# Altium integrated library Connector - Barrier Block.IntLib: 6 symbols
Pins are listed as number, name and electrical type; pins without a type are passive.

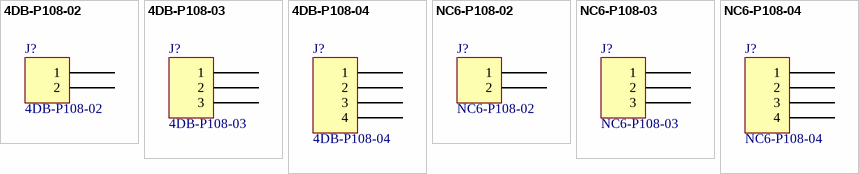
[diagram p0: symbols 4DB-P108-02 to NC6-P108-04]

## 4DB-P108-02
designator J?
CONN BARRIER STRIP 2CIRC 0.325"; Manufacturer: TE Connectivity AMP Connectors; Number Of Circuits: 2; Pitch: 0.325" (8.26mm); Current Rating: 20A; Voltage: 150V; Wire Gauge: 12-22 AWG; Top Termination: Screws with Captive Plate; Bottom Termination: PC Pin; Barrier Type: 2 Wall (Dual); Part Number: 4DB-P108-02; PartId: 27456; Supplier 1: Digi-Key; Supplier Part Number 1: A98472-ND; Supplier 2: Digi-Key; Supplier Part Number 2: A98472-ND; Supplier 3: Digi-Key; Supplier Part Number 3: A98472-ND; Supplier 4: Digi-Key; Supplier Part Number 4: A98472-ND; ComponentLink1Description: Datasheet; ComponentLink1URL: http://www.te.com/commerce/DocumentDelivery/DDEController?Action=srchrtrv&DocNm=2-1437667-4&DocType=Customer+Drawing&DocLang=English; ComponentLink2Description: Digi-Key Listing; ComponentLink2URL: http://www.digikey.com/product-detail/en/te-connectivity-amp-connectors/4DB-P108-02/A98472-ND/1277921; Price: 0.99; Type: Barrier Block; Series: 4DB, Buchanan; Part Status: Active; Number Of Wire Entries: 2; Number Of Rows: 1; Features: -; Colour: Black; Terminal Screw Material: Steel; Terminal Screw Finish: Zinc, Clear Chromate; Mounting Type: Through Hole; Operating Temperature: 105C
footprint TE 4DB-P108-02
pins: 1, 2

## 4DB-P108-03
designator J?
CONN BARRIER STRIP 3CIRC 0.325"; Manufacturer: TE Connectivity AMP Connectors; Number Of Circuits: 3; Pitch: 0.325" (8.26mm); Current Rating: 20A; Voltage: 150V; Wire Gauge: 12-22 AWG; Top Termination: Screws with Captive Plate; Bottom Termination: PC Pin; Barrier Type: 2 Wall (Dual); Part Number: 4DB-P108-03; PartId: 27457; Supplier 1: Digi-Key; Supplier Part Number 1: A98473-ND; Supplier 2: Digi-Key; Supplier Part Number 2: A98473-ND; Supplier 3: Digi-Key; Supplier Part Number 3: A98473-ND; Supplier 4: Digi-Key; Supplier Part Number 4: A98473-ND; ComponentLink1Description: Datasheet; ComponentLink1URL: http://www.te.com/commerce/DocumentDelivery/DDEController?Action=srchrtrv&DocNm=2-1437667-4&DocType=Customer+Drawing&DocLang=English; ComponentLink2Description: Digi-Key Listing; ComponentLink2URL: http://www.digikey.com/products/en?keywords=4DB-P108-03; Price: 1.13; Type: Barrier Block; Series: 4DB, Buchanan; Part Status: Active; Number Of Wire Entries: 3; Number Of Rows: 1; Features: -; Colour: Black; Terminal Screw Material: Steel; Terminal Screw Finish: Zinc, Clear Chromate; Mounting Type: Through Hole; Operating Temperature: 105C
footprint TE 4DB-P108-03
pins: 1, 2, 3

## 4DB-P108-04
designator J?
CONN BARRIER STRIP 4CIRC 0.325"; Manufacturer: TE Connectivity AMP Connectors; Number Of Circuits: 4; Pitch: 0.325" (8.26mm); Current Rating: 20A; Voltage: 150V; Wire Gauge: 12-22 AWG; Top Termination: Screws with Captive Plate; Bottom Termination: PC Pin; Barrier Type: 2 Wall (Dual); Part Number: 4DB-P108-04; PartId: 27458; Supplier 1: Digi-Key; Supplier Part Number 1: A98474-ND; Supplier 2: Digi-Key; Supplier Part Number 2: A98474-ND; Supplier 3: Digi-Key; Supplier Part Number 3: A98474-ND; Supplier 4: Digi-Key; Supplier Part Number 4: A98474-ND; ComponentLink1Description: Datasheet; ComponentLink1URL: http://www.te.com/commerce/DocumentDelivery/DDEController?Action=srchrtrv&DocNm=2-1437667-4&DocType=Customer+Drawing&DocLang=English; ComponentLink2Description: Digi-Key Listing; ComponentLink2URL: http://www.digikey.com/products/en?keywords=4DB-P108-04; Price: 2.11; Type: Barrier Block; Series: 4DB, Buchanan; Part Status: Active; Number Of Wire Entries: 4; Number Of Rows: 1; Features: -; Colour: Black; Terminal Screw Material: Steel; Terminal Screw Finish: Zinc, Clear Chromate; Mounting Type: Through Hole; Operating Temperature: 105C
footprint TE 4DB-P108-04
pins: 1, 2, 3, 4

## NC6-P108-02
designator J?
CONN BARRIER STRIP 2CIRC 0.375"; Manufacturer: TE Connectivity AMP Connectors; Number Of Circuits: 2; Pitch: 0.375" (9.53mm); Current Rating: 20A; Voltage: 300V; Wire Gauge: 12-22 AWG; Top Termination: Screws with Captive Plate; Bottom Termination: PC Pin; Barrier Type: 2 Wall (Dual); Part Number: NC6-P108-02; PartId: 27459; Supplier 1: Digi-Key; Supplier Part Number 1: A98495-ND; Supplier 2: Digi-Key; Supplier Part Number 2: A98495-ND; Supplier 3: Digi-Key; Supplier Part Number 3: A98495-ND; Supplier 4: Digi-Key; Supplier Part Number 4: A98495-ND; ComponentLink1Description: Datasheet; ComponentLink1URL: http://www.te.com/commerce/DocumentDelivery/DDEController?Action=srchrtrv&DocNm=3-1437664-0&DocType=Customer+Drawing&DocLang=English; ComponentLink2Description: Digi-Key Listing; ComponentLink2URL: http://www.digikey.com/product-detail/en/te-connectivity-amp-connectors/NC6-P108-02/A98495-ND/1277926; Price: 1.24; Type: Barrier Block; Series: NC6, Buchanan; Part Status: Active; Number Of Wire Entries: 2; Number Of Rows: 1; Features: -; Colour: Black; Terminal Screw Material: Steel; Terminal Screw Finish: Zinc; Mounting Type: Through Hole; Operating Temperature: -40C ~ 105C
footprint TE NC6-P108-02
pins: 1, 2

## NC6-P108-03
designator J?
CONN BARRIER STRIP 3CIRC 0.375"; Manufacturer: TE Connectivity AMP Connectors; Number Of Circuits: 3; Pitch: 0.375" (9.53mm); Current Rating: 20A; Voltage: 300V; Wire Gauge: 12-22 AWG; Top Termination: Screws with Captive Plate; Bottom Termination: PC Pin; Barrier Type: 2 Wall (Dual); Part Number: NC6-P108-03; PartId: 27460; Supplier 1: Digi-Key; Supplier Part Number 1: A98496-ND; Supplier 2: Digi-Key; Supplier Part Number 2: A98496-ND; Supplier 3: Digi-Key; Supplier Part Number 3: A98496-ND; Supplier 4: Digi-Key; Supplier Part Number 4: A98496-ND; ComponentLink1Description: Datasheet; ComponentLink1URL: http://www.te.com/commerce/DocumentDelivery/DDEController?Action=srchrtrv&DocNm=3-1437664-0&DocType=Customer+Drawing&DocLang=English; ComponentLink2Description: Digi-Key Listing; ComponentLink2URL: http://www.digikey.com/product-detail/en/te-connectivity-amp-connectors/NC6-P108-03/A98496-ND/1277927; Price: 1.99; Type: Barrier Block; Series: NC6, Buchanan; Part Status: Active; Number Of Wire Entries: 3; Number Of Rows: 1; Features: -; Colour: Black; Terminal Screw Material: Steel; Terminal Screw Finish: Zinc; Mounting Type: Through Hole; Operating Temperature: -40C ~ 105C
footprint TE NC6-P108-03
pins: 1, 2, 3

## NC6-P108-04
designator J?
CONN BARRIER STRIP 4CIRC 0.375"; Manufacturer: TE Connectivity AMP Connectors; Number Of Circuits: 4; Pitch: 0.375" (9.53mm); Current Rating: 20A; Voltage: 300V; Wire Gauge: 12-22 AWG; Top Termination: Screws with Captive Plate; Bottom Termination: PC Pin; Barrier Type: 2 Wall (Dual); Part Number: NC6-P108-04; PartId: 27461; Supplier 1: Digi-Key; Supplier Part Number 1: A98497-ND; Supplier 2: Digi-Key; Supplier Part Number 2: A98497-ND; Supplier 3: Digi-Key; Supplier Part Number 3: A98497-ND; Supplier 4: Digi-Key; Supplier Part Number 4: A98497-ND; ComponentLink1Description: Datasheet; ComponentLink1URL: http://www.te.com/commerce/DocumentDelivery/DDEController?Action=srchrtrv&DocNm=3-1437664-0&DocType=Customer+Drawing&DocLang=English; ComponentLink2Description: Digi-Key Listing; ComponentLink2URL: http://www.digikey.com/products/en?keywords=NC6-P108-04; Price: 2.09; Type: Barrier Block; Series: NC6, Buchanan; Part Status: Active; Number Of Wire Entries: 4; Number Of Rows: 1; Features: -; Colour: Black; Terminal Screw Material: Steel; Terminal Screw Finish: Zinc; Mounting Type: Through Hole; Operating Temperature: -40C ~ 105C
footprint TE NC6-P108-04
pins: 1, 2, 3, 4